# Altium footprint library 1008PS.PcbLib: 1 footprints
Each footprint in its own frame and in the unit in brackets; x right, y up, seen from the top. Pads: shape width x height; smd on the part's side, far side on the other; paste and mask are expansions set on the pad; w line width, h text height; cw(c..) or ccw(c..) is an arc to the next point about the centre after c.
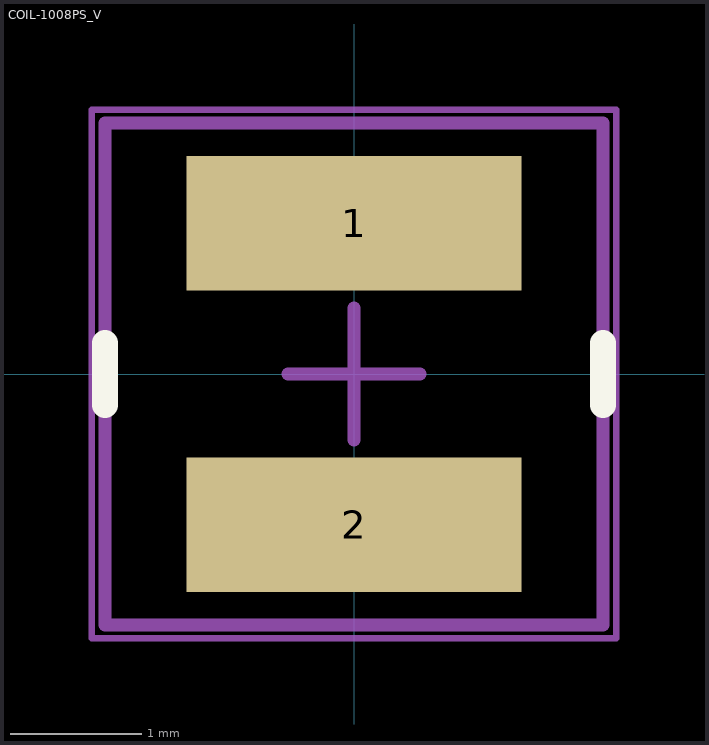
[diagram p0: the footprint, top view; thin cyan lines are the x and y axes]

## COIL-1008PS_V [mm] "SMD, 2-Leads, Body 3.81x3.78mm"
height 2.74
pads (2):
  rect 2.54x1.02 smd: 1(0,1.145) 2(0,-1.145)
Top Overlay:
  lines w0.2: -1.89,-0.235 -1.89,0.235 ; 1.89,-0.235 1.89,0.235
Mechanical 13:
  lines w0.1: -1.89,-1.905 1.89,-1.905 1.89,1.905 -1.89,1.905 -1.89,-1.905
Mechanical 15:
  lines w0.05: -1.99,-2.005 1.99,-2.005 1.99,2.005 -1.99,2.005 -1.99,-2.005
  lines w0.1: -0.5,0 0.5,0 ; 0,-0.5 0,0.5
3D body "Coilcraft-1008PS-DEFAULT.STEP": height 2.74, standoff -0.01, extent -1.89,-1.905 1.89,1.905